# Altium footprint library Modbus TCP.PcbLib: 22 footprints (part 2 of 2)
Each footprint in its own frame and in the unit in brackets; x right, y up, seen from the top. Pads: shape width x height; smd on the part's side, far side on the other; paste and mask are expansions set on the pad; w line width, h text height; cw(c..) or ccw(c..) is an arc to the next point about the centre after c.
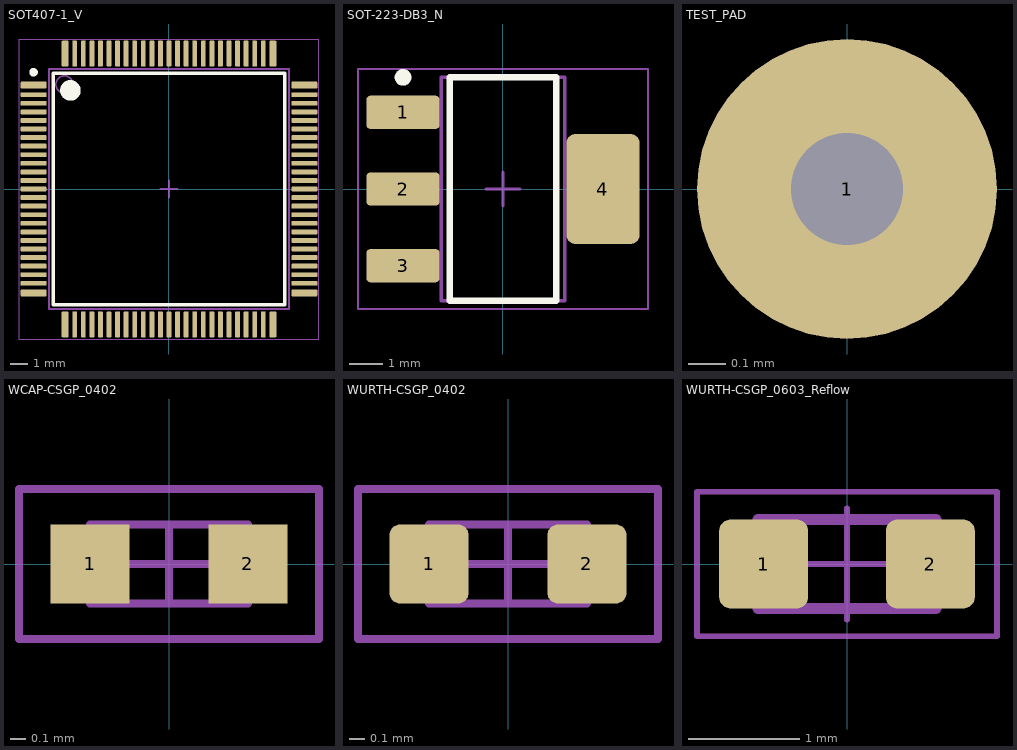
[diagram p1: the footprints below, top view; thin cyan lines are the x and y axes]

## SOT407-1_V [mm] "Thin QFP, 100-Leads, Body 14x14mm, Pitch 0.5mm, NXP Recommended"
height 1.6
pads (100):
  rrect25% 1.5x0.4 smd mask+0.04: 1(-7.9,6.06) 25(-7.9,-6.06) 51(7.9,-6.06) 75(7.9,6.06)
  rrect25% 1.5x0.28 smd mask+0.04: 2(-7.9,5.5) 3(-7.9,5) 4(-7.9,4.5) 5(-7.9,4) 6(-7.9,3.5) 7(-7.9,3) 8(-7.9,2.5) 9(-7.9,2) 10(-7.9,1.5) 11(-7.9,1) 12(-7.9,0.5) 13(-7.9,0) 14(-7.9,-0.5) 15(-7.9,-1) 16(-7.9,-1.5) 17(-7.9,-2) 18(-7.9,-2.5) 19(-7.9,-3) 20(-7.9,-3.5) 21(-7.9,-4) 22(-7.9,-4.5) 23(-7.9,-5) 24(-7.9,-5.5) 52(7.9,-5.5) 53(7.9,-5) 54(7.9,-4.5) 55(7.9,-4) 56(7.9,-3.5) 57(7.9,-3) 58(7.9,-2.5) 59(7.9,-2) 60(7.9,-1.5) 61(7.9,-1) 62(7.9,-0.5) 63(7.9,0) 64(7.9,0.5) 65(7.9,1) 66(7.9,1.5) 67(7.9,2) 68(7.9,2.5) 69(7.9,3) 70(7.9,3.5) 71(7.9,4) 72(7.9,4.5) 73(7.9,5) 74(7.9,5.5)
  rrect25% 0.4x1.5 smd mask+0.04: 26(-6.06,-7.9) 50(6.06,-7.9) 76(6.06,7.9) 100(-6.06,7.9)
  rrect25% 0.28x1.5 smd mask+0.04: 27(-5.5,-7.9) 28(-5,-7.9) 29(-4.5,-7.9) 30(-4,-7.9) 31(-3.5,-7.9) 32(-3,-7.9) 33(-2.5,-7.9) 34(-2,-7.9) 35(-1.5,-7.9) 36(-1,-7.9) 37(-0.5,-7.9) 38(0,-7.9) 39(0.5,-7.9) 40(1,-7.9) 41(1.5,-7.9) 42(2,-7.9) 43(2.5,-7.9) 44(3,-7.9) 45(3.5,-7.9) 46(4,-7.9) 47(4.5,-7.9) 48(5,-7.9) 49(5.5,-7.9) 77(5.5,7.9) 78(5,7.9) 79(4.5,7.9) 80(4,7.9) 81(3.5,7.9) 82(3,7.9) 83(2.5,7.9) 84(2,7.9) 85(1.5,7.9) 86(1,7.9) 87(0.5,7.9) 88(0,7.9) 89(-0.5,7.9) 90(-1,7.9) 91(-1.5,7.9) 92(-2,7.9) 93(-2.5,7.9) 94(-3,7.9) 95(-3.5,7.9) 96(-4,7.9) 97(-4.5,7.9) 98(-5,7.9) 99(-5.5,7.9)
Top Overlay:
  circle w0.6: c-5.75,5.75 r0.3
  circle w0.25: c-7.9,6.81 r0.125
  lines w0.2: -6.75,-6.75 6.75,-6.75 6.75,6.75 -6.75,6.75 -6.75,-6.75
Mechanical 13:
  circle w0.1: c-6.1,6.1 r0.5
  lines w0.1: -7,-7 7,-7 7,7 -7,7 -7,-7
Mechanical 15:
  lines w0.05: -8.75,-8.75 8.75,-8.75 8.75,8.75 -8.75,8.75 -8.75,-8.75
  lines w0.1: -0.5,0 0.5,0 ; 0,-0.5 0,0.5
3D body: height 1.6, standoff 0.05, extent -7,-7 7,7

## SOT-223-DB3_N [mm] "SOT223, 4-Leads, Body 6.5x3.5mm, Pitch 2.3mm, Lead Span 7mm, IPC Medium Density"
height 1.8
pads (4):
  rrect25% 2.2x1 smd: 1(-3,2.3) 2(-3,0) 3(-3,-2.3)
  rrect25% 2.2x3.3 smd: 4(3,0)
Top Overlay:
  circle w0.25: c-3,3.35 r0.125
  lines w0.2: -1.6,-3.35 -1.6,3.35 1.6,3.35 1.6,-3.35 -1.6,-3.35
Mechanical 13:
  lines w0.1: -1.85,-3.35 -1.85,3.35 1.85,3.35 1.85,-3.35 -1.85,-3.35
Mechanical 15:
  lines w0.05: -4.35,-3.6 -4.35,3.6 4.35,3.6 4.35,-3.6 -4.35,-3.6
  lines w0.1: -0.5,0 0.5,0 ; 0,-0.5 0,0.5
3D body: height 1.8, standoff 0.02, extent -1.85,-3.35 1.85,3.35

## TEST_PAD [mm] "Test Pad"
height 0.85
pads (1):
  round 0.8 / inner round 1.5 / far side round 0.8 hole 0.3: 1(0,0)

## WCAP-CSGP_0402 [mm] "Ceramic Capacitors, body 1x0.5mm"
height 0.55
pads (2):
  rect 0.5x0.5 smd: 1(-0.5,0) 2(0.5,0)
Mechanical 13:
  lines w0.05: -0.5,-0.25 -0.5,0.25 0.5,0.25 0.5,-0.25 -0.5,-0.25
Mechanical 15:
  lines w0.05: -0.25,0 0.25,0 ; 0,-0.25 0,0.25 ; -0.95,-0.475 -0.95,0.475 0.95,0.475 0.95,-0.475 -0.95,-0.475
3D body "1x0.5x0.5x0.25.stp": height 0.5, standoff 0, extent -0.5,-0.25 0.5,0.25

## WURTH-CSGP_0402 [mm] "Ceramic Capacitors, body 1x0.5mm"
height 0.55
pads (2):
  rrect25% 0.5x0.5 smd: 1(-0.5,0) 2(0.5,0)
Mechanical 13:
  lines w0.05: -0.5,-0.25 -0.5,0.25 0.5,0.25 0.5,-0.25 -0.5,-0.25
Mechanical 15:
  lines w0.05: -0.25,0 0.25,0 ; 0,-0.25 0,0.25 ; -0.95,-0.475 -0.95,0.475 0.95,0.475 0.95,-0.475 -0.95,-0.475
3D body "1x0.5x0.5x0.25.stp": height 0.5, standoff 0, extent -0.5,-0.25 0.5,0.25

## WURTH-CSGP_0603_Reflow [mm] "Ceramic Capacitors, body 1.6x0.8mm"
height 0.87
pads (2):
  rrect25% 0.8x0.8 smd: 1(-0.75,0) 2(0.75,0)
Mechanical 13:
  lines w0.1: -0.8,-0.4 -0.8,0.4 0.8,0.4 0.8,-0.4 -0.8,-0.4
Mechanical 15:
  lines w0.05: -0.5,0 0.5,0 ; 0,-0.5 0,0.5 ; -1.35,-0.65 -1.35,0.65 1.35,0.65 1.35,-0.65 -1.35,-0.65
3D body "1.6x0.8x0.8x0.4.stp": height 0.8, standoff 0, extent -0.8,-0.4 0.8,0.4